# EAGLE library part TPS63700 (library ic-TI)
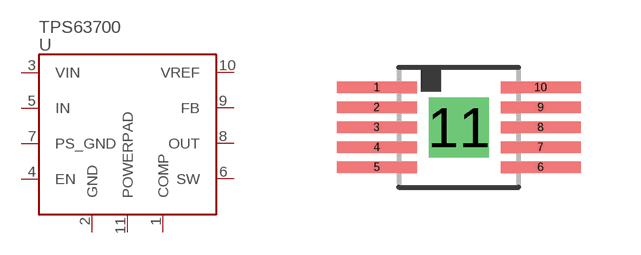
[diagram p6: symbol with the pads of SON10_3_0.5; footprint SON10_3_0.5]

Designator prefix U

## TPS63700  [SON10_3_0.5]
1  COMP
2  GND
3  VIN
4  EN
5  IN
6  SW
7  PS_GND
8  OUT
9  FB
10  VREF
11  POWERPAD

## Footprint SON10_3_0.5 (pad centres in mm)
smd 2 x 0.297: 1 -2.05,1; 2 -2.05,0.5; 3 -2.05,0; 4 -2.05,-0.5; 5 -2.05,-1; 6 2.05,-1; 7 2.05,-0.5; 8 2.05,0; 9 2.05,0.5; 10 2.05,1
drill 0.991 pad 1.5 square: 11 0,0